# Altium schematic symbol library General.SchLib: 173 symbols (part 3 of 4)
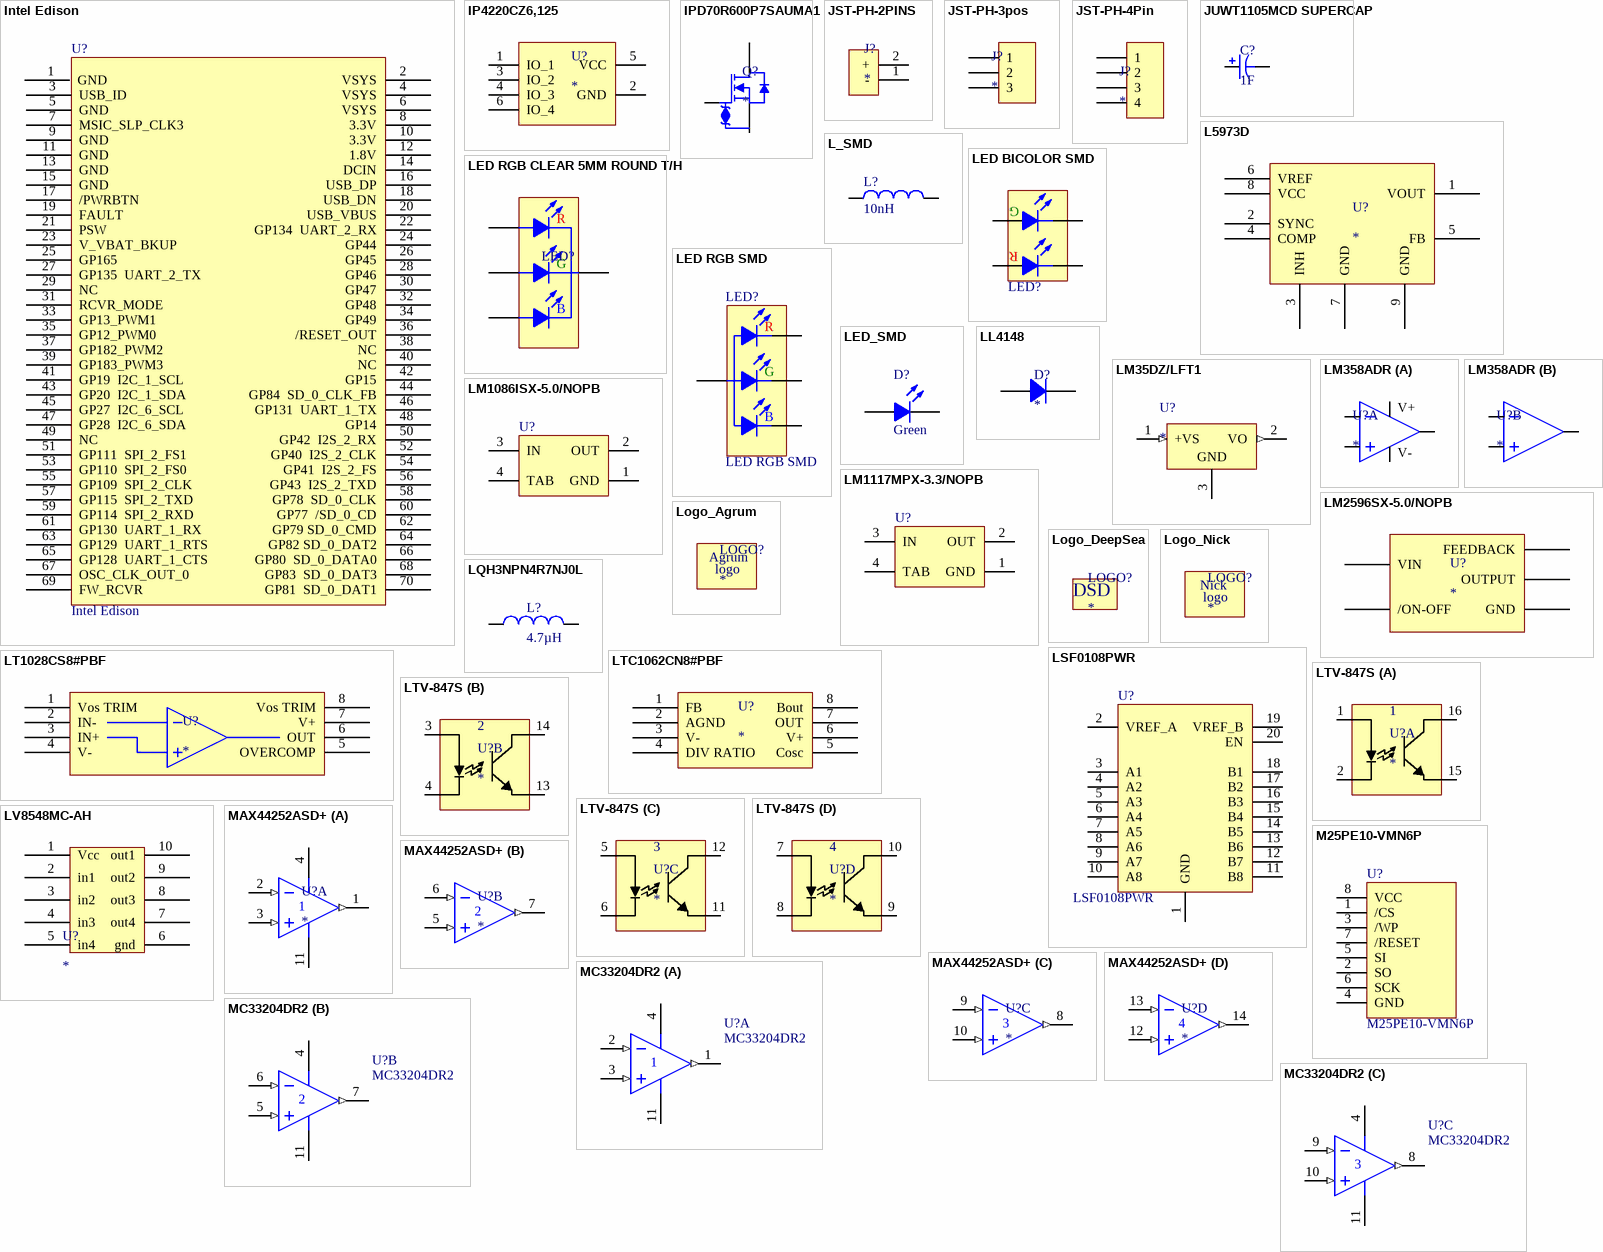
[diagram p6: symbols Intel Edison to MC33204DR2]

## LM1117MPX-3.3/NOPB
designator U?
800mA Low-Dropout Linear Regulator, 4-pin SOT-223, Pb-Free; PartNumber: LM1117MPX-3.3/NOPB; Manufacturer: National Semiconductor; PackageTopMarking: XYTT*N05A; PowerWise: N; CompType: LDO IC; Regulator Topology: Positive Fixed; Voltage - Output: 3.3V; Voltage - Dropout (Typical): 1.2V @ 800mA; Number of Regulators: 1; Voltage - Input: Up to 15V; Published: 1-Mar-2010; DatasheetVersion: Apr-2006; PackageVersion: revB, Apr-2003; PackageReference: MP04A; Publisher: Altium Limited; PackageDescription: Molded SOT-223, 6.50 x 3.56 x 1.6mm Body, 4 Lead, 2.3mm Pitch; Supplier 1: Digi-Key; Supplier Part Number 1: LM1117MPX-3.3TR-ND; Supplier 2: Digi-Key; Supplier Part Number 2: LM1117MPX-3.3CT-ND; Supplier 3: Digi-Key; Supplier Part Number 3: LM1117MPX-3.3DKR-ND; RoHS: Y; PinCount: 4; Code_JEDEC: TO-261-AA; Code_IPC: SOT223-4; ComponentLink1Description: LM1117 Datasheet; ComponentLink1URL: http://www.national.com/ds/LM/LM1117.pdf; ComponentLink2Description: LM1117 Web Page; ComponentLink2URL: http://www.national.com/pf/LM/LM1117.html; ComponentLink3Description: MP04A Package Page; ComponentLink3URL: http://www.national.com/packaging/folders/mp04a.html; Supplier 4: Digi-Key; Manufacturer Part Number: LM1117MPX-3.3/NOPB; Category: Integrated Circuits (ICs); Stock 4: 15124; Pricing 4: 1=1.1, 10=0.973, 25=0.8784, 100=0.7686, 250=0.67404, 500=0.5978, 750=0.52155, 1000=0.47275 (USD); Packaging: Cut Tape (CT); Current - Output: 800mA; Current - Limit (Min): 800mA; Operating Temperature: 0°C ~ 125°C; Mounting Type: Surface Mount; Package / Case: TO-261-4, TO-261AA; Supplier Device Package: SOT-223; ComponentLink4URL: http://www.ti.com/lit/ds/symlink/lm1117-n.pdf; ComponentLink4Description: http://www.ti.com/lit/ds/symlink/lm1117-n.pdf; Supplier Part Number 4: LM1117MPX-3.3/NOPBCT-ND
footprint MP04A_N (SOT223, 4-Leads, Body 6.5x3.5mm, Pitch 2.3mm, Lead Span 7mm, IPC Medium Density)
footprint MP04A_L (SOT223, 4-Leads, Body 6.5x3.5mm, Pitch 2.3mm, Lead Span 7mm, IPC High Density)
footprint MP04A_M (SOT223, 4-Leads, Body 6.5x3.5mm, Pitch 2.3mm, Lead Span 7mm, IPC Low Density)
pins: 1 GND (power), 2 OUT (power), 3 IN (power), 4 TAB (power)

## LM2596SX-5.0/NOPB
designator U?
IC REG BUCK 5V 3A TO263-5; Manufacturer: Texas Instruments; Manufacturer Part Number: LM2596SX-5.0/NOPB; Function: Step-Down; Output Configuration: Positive; Output Type: Fixed; Number of Outputs: 1; Voltage - Input (Min): 4.5V; Voltage - Input (Max): 40V; Frequency - Switching: 150kHz; Synchronous Rectifier: No; Supplier 1: Digi-Key; RoHS: RoHS Compliant; Category: Integrated Circuits (ICs); Stock 1: 6358; Pricing 1: 1=4.91, 10=4.413, 100=3.6153 (USD); Packaging: Cut Tape (CT); Part Status: Active; Topology: Buck; Voltage - Output (Min/Fixed): 5V; Voltage - Output (Max): -; Current - Output: 3A; Operating Temperature: -40°C ~ 125°C (TJ); Mounting Type: Surface Mount; Package / Case: TO-263-6, D²Pak (5 Leads + Tab), TO-263BA; Supplier Device Package: DDPAK/TO-263-5; ComponentLink1URL: http://www.ti.com/lit/ds/symlink/lm2596.pdf; ComponentLink1Description: http://www.ti.com/lit/ds/symlink/lm2596.pdf; Supplier Part Number 1: LM2596SX-5.0/NOPBCT-ND
footprint TO-263_L
footprint TO-263_M (D2-PAK, 6-Pads, Body 7.55x8.56mm (max), IPC Low Density)
footprint TO-263_N
pins: 1 VIN, 2 OUTPUT, 3 GND, 4 FEEDBACK, 5 /ON-OFF

## Logo_Agrum
designator LOGO?
footprint AGRUM_LOGO1
text: Agrum; logo

## Logo_DeepSea
designator LOGO?
footprint DeepSea_logo1
text: DSD

## Logo_Nick
designator LOGO?
footprint logo_nick_400
text: Nick; logo

## LQH3NPN4R7NJ0L
designator L?, comment 4.7µH
FIXED IND 4.7UH 1.12A 130 MOHM; Manufacturer: Murata Electronics North America; Manufacturer Part Number: LQH3NPN4R7NJ0L; Type: Wirewound; Material - Core: Ferrite; Tolerance: ±30%; Current - Saturation: 780mA; Shielding: Shielded; DC Resistance (DCR): 156 mOhm Max; Frequency - Self Resonant: 65MHz; Frequency - Test: 1MHz; Supplier 1: Digi-Key; RoHS: RoHS Compliant; Category: Inductors, Coils, Chokes; Stock 1: 11577; Pricing 1: 1=0.43, 10=0.387, 25=0.3436, 50=0.3006, 100=0.2792, 250=0.25772, 500=0.24482 (USD); Packaging: Cut Tape (CT); Current Rating: 1.12A; Q @ Freq: -; Ratings: -; Operating Temperature: -40°C ~ 85°C; Mounting Type: Surface Mount; Package / Case: 1212 (3030 Metric); Size / Dimension: 0.118" L x 0.118" W (3.00mm x 3.00mm); Height - Seated (Max): 0.039" (1.00mm); ComponentLink1URL: http://search.murata.co.jp/Ceramy/image/img/PDF/ENG/L0075S0103LQH3NP_J0.pdf; ComponentLink1Description: http://search.murata.co.jp/Ceramy/image/img/PDF/ENG/L0075S0103LQH3NP_J0.pdf; Supplier Part Number 1: 490-5346-1-ND; Value: 4.7µH
footprint IND_WIRE_murata_N (Precision Wire Wound Inductor, 2-Leads, Body 3.00x3.00mm, IPC Medium Density)
pins: 1, 2

## LSF0108PWR
designator U?
IC 8CH LEVEL TRANS BIDIR 20TSSOP; Manufacturer: Texas Instruments; Logic Function: Translator, Bidirectional; Number of Bits: 8; Input Type: Voltage; Data Rate: 100MHz; Number of Outputs/Channel: 1; Differential - Input:Output: No/No; Propagation Delay (Max): 0.4ns; Voltage - Supply: 0 V ~ 5 V; Supplier 1: Digi-Key; Manufacturer Part Number: LSF0108PWR; RoHS: RoHS Compliant; Category: Integrated Circuits (ICs); Stock 1: 787; Pricing 1: 1=1.98, 10=1.788, 25=1.602, 100=1.4407, 250=1.27928, 500=1.1178, 750=1.01223, 1000=0.92529 (USD); Packaging: Cut Tape (CT); Output Type: Voltage; Number of Channels: 8; Operating Temperature: -40°C ~ 85°C; Package / Case: 20-TSSOP (0.173", 4.40mm Width); Supplier Device Package: 20-TSSOP; Mounting Type: Surface Mount; ComponentLink1URL: http://www.ti.com/lit/ds/symlink/lsf0108.pdf; ComponentLink1Description: http://www.ti.com/lit/ds/symlink/lsf0108.pdf; Supplier Part Number 1: 296-37828-1-ND
footprint TSSOP-20_N (TSOP, 20-Leads, Body 6,50x4,40mm, Pitch 0,65mm, IPC Medium Density)
footprint TSSOP-20_M (TSOP, 20-Leads, Body 6,50x4,40mm, Pitch 0,65mm, IPC Low Density)
footprint TSSOP-20_L (TSOP, 20-Leads, Body 6,50x4,40mm, Pitch 0,65mm, IPC High Density)
pins: 1 GND, 2 VREF_A, 3 A1, 4 A2, 5 A3, 6 A4, 7 A5, 8 A6, 9 A7, 10 A8, 11 B8, 12 B7, 13 B6, 14 B5, 15 B4, 16 B3, 17 B2, 18 B1, 19 VREF_B, 20 EN

## LT1028CS8#PBF
designator U?
IC OPAMP GP 75MHZ 8SO; Manufacturer: Linear Technology; Manufacturer Part Number: LT1028CS8#PBF; Amplifier Type: General Purpose; Number of Circuits: 1; Slew Rate: 15 V/µs; Current - Supply: 7.6mA; Voltage - Supply, Single/Dual (±): ±4 V ~ 18 V; Supplier 1: Digi-Key; RoHS: RoHS Compliant; Category: Integrated Circuits (ICs); Stock 1: 3083; Pricing 1: 1=9.55, 25=6.3396, 100=4.95 (USD); Packaging: Tube; Part Status: Active; Output Type: -; -3db Bandwidth: -; Current - Output / Channel: -; Operating Temperature: 0°C ~ 70°C; Mounting Type: Surface Mount; Package / Case: 8-SOIC (0.154", 3.90mm Width); Supplier Device Package: 8-SO; ComponentLink1URL: http://www.linear.com/docs/3480; ComponentLink1Description: http://www.linear.com/docs/3480; Supplier Part Number 1: LT1028CS8#PBF-ND
footprint SOIC8_L (SOIC, 8-Leads, Body 4.90x3.90mm, Pitch 1.27mm, IPC High Density)
footprint SOIC8_M (SOIC, 8-Leads, Body 4.90x3.90mm, Pitch 1.27mm, IPC Low Density)
footprint SOIC8_N (SOIC, 8-Leads, Body 4.90x3.90mm, Pitch 1.27mm, IPC Medium Density)
pins: 1 Vos TRIM, 2 IN-, 3 IN+, 4 V-, 5 OVERCOMP, 6 OUT, 7 V+, 8 Vos TRIM

## LTC1062CN8#PBF
designator U?
IC FILTER 5TH ORDER LOWPASS 8DIP; Manufacturer: Linear Technology; Manufacturer Part Number: LTC1062CN8#PBF; Filter Type: Butterworth, Low Pass Switched Capacitor; Frequency - Cutoff or Center: 20kHz; Voltage - Supply: ±8V, 5V; Supplier 1: Digi-Key; RoHS: RoHS Compliant; Category: Integrated Circuits (ICs); Stock 1: 3093; Pricing 1: 1=6.16, 25=4.1, 100=3.3 (USD); Packaging: Tube; Part Status: Active; Filter Order: 5th; Mounting Type: Through Hole; Package / Case: 8-DIP (0.300", 7.62mm); Supplier Device Package: 8-PDIP; ComponentLink1URL: http://www.linear.com/docs/4050; ComponentLink1Description: http://www.linear.com/docs/4050; Supplier Part Number 1: LTC1062CN8#PBF-ND
footprint DIP8
pins: 1 FB, 2 AGND, 3 V-, 4 DIV RATIO, 5 Cosc, 6 V+, 7 OUT, 8 Bout

## LTV-847S
designator U?
OPTOISOLTR 5KV 4CH TRANS 16-SMD; Manufacturer: Lite-On Inc.; Manufacturer Part Number: LTV-847S; Number of Channels: 4; Voltage - Isolation: 5000Vrms; Current Transfer Ratio (Min): 50% @ 5mA; Current Transfer Ratio (Max): 600% @ 5mA; Rise / Fall Time (Typ): 4µs, 3µs; Input Type: DC; Output Type: Transistor; Voltage - Output (Max): 35V; Current - Output / Channel: 50mA; Voltage - Forward (Vf) (Typ): 1.2V; Vce Saturation (Max): 200mV; Supplier 1: Digi-Key; RoHS: RoHS Compliant; Category: Isolators; Stock 1: 11220; Pricing 1: 1=1.02, 10=0.825, 25=0.6344, 100=0.5711, 250=0.5076, 500=0.43146, 1000=0.35532, 2500=0.33756, 5000=0.32994 (USD); Packaging: Tube; Part Status: Active; Turn On / Turn Off Time (Typ): -; Current - DC Forward (If) (Max): 50mA; Operating Temperature: -30°C ~ 110°C; Mounting Type: Surface Mount; Package / Case: 16-SMD, Gull Wing; Supplier Device Package: 16-SMD; ComponentLink1URL: http://optoelectronics.liteon.com/upload/download/DS-70-96-0016/S_110_LTV-817%20%20827%20%20847%20(%20M,%20S,%20S-TA,%20S-TA1,%20S-TP%20)%20Series.pdf; ComponentLink1Description: http://optoelectronics.liteon.com/upload/download/DS-70-96-0016/S_110_LTV-817%20%20827%20%20847%20(%20M,%20S,%20S-TA,%20S-TA1,%20S-TP%20)%20Series.pdf; Supplier Part Number 1: 160-1371-5-ND
footprint SOP16_LTVS874_L (SOP, 16-Leads, Body 19.79x6.50mm, Pitch 2.54mm, IPC High Density)
footprint SOP16_LTVS874_M (SOP, 16-Leads, Body 19.79x6.50mm, Pitch 2.54mm, IPC Low Density)
footprint SOP16_LTVS874_N (SOP, 16-Leads, Body 19.79x6.50mm, Pitch 2.54mm, IPC Medium Density)
part A pins: 1 control+, 2 control-, 15 DC-, 16 DC+
part B pins: 3 control+, 4 control-, 13 DC-, 14 DC+
part C pins: 5 control+, 6 control-, 11 DC-, 12 DC+
part D pins: 7 control+, 8 control-, 9 DC-, 10 DC+

## LV8548MC-AH
designator U?
IC MOTOR DRIVER PAR MFP10S; Manufacturer: ON Semiconductor; Manufacturer Part Number: LV8548MC-AH; Motor Type - Stepper: Bipolar; Motor Type - AC, DC: Brushed DC; Function: Power Bridge - Logic Driven Power Stage; Output Configuration: Full H-Bridge, (2) Dual; Interface: Parallel; Current - Output: 1A; Voltage - Supply: 4 V ~ 16 V; Supplier 1: Digi-Key; Supplier Part Number 1: 869-1287-6-ND; Supplier 2: Digi-Key; RoHS: RoHS Compliant; Category: Integrated Circuits (ICs); Stock 2: 2255; Pricing 2: 1=1.41, 10=1.244, 25=1.1232, 100=0.9828, 250=0.86192, 500=0.7644, 1000=0.6045 (USD); Packaging: Cut Tape (CT); Applications: General Purpose; Voltage - Load: 4 V ~ 16 V; Operating Temperature: -30°C ~ 85°C; Mounting Type: Surface Mount; Package / Case: 10-LSOP (0.173", 4.40mm Width); Supplier Device Package: MFP10S; ComponentLink1URL: http://www.onsemi.com/pub_link/Collateral/ENA2038-D.PDF; ComponentLink1Description: http://www.onsemi.com/pub_link/Collateral/ENA2038-D.PDF; Supplier Part Number 2: 869-1287-1-ND
footprint SOIC10
pins: 1 Vcc, 2 in1, 3 in2, 4 in3, 5 in4, 6 gnd, 7 out4, 8 out3, 9 out2, 10 out1

## M25PE10-VMN6P
designator U?
IC FLASH 1MBIT 75MHZ 8SO; Manufacturer: Micron Technology Inc; Memory Type: FLASH - NOR; Memory Size: 1M (128K x 8); Interface: SPI Serial; Voltage - Supply: 2.7 V ~ 3.6 V; Supplier 1: Digi-Key; Manufacturer Part Number: M25PE10-VMN6P; RoHS: RoHS Compliant; Category: Integrated Circuits (ICs); Stock 1: 1134; Pricing 1: 1=0.53, 10=0.516, 25=0.4796, 50=0.4768, 100=0.4236, 250=0.41808, 500=0.41184, 1000=0.4008, 2500=0.39216 (USD); Packaging: Tube; Format - Memory: FLASH; Speed: 75MHz; Operating Temperature: -40°C ~ 85°C; Package / Case: 8-SOIC (0.154", 3.90mm Width); Supplier Device Package: 8-SO; ComponentLink1URL: http://www.micron.com/~/media/Documents/Products/Data%20Sheet/NOR%20Flash/Serial%20NOR/M25PE_M45PE/M25PE20_10.pdf; ComponentLink1Description: http://www.micron.com/~/media/Documents/Products/Data%20Sheet/NOR%20Flash/Serial%20NOR/M25PE_M45PE/M25PE20_10.pdf; Supplier Part Number 1: M25PE10-VMN6P-ND
footprint SO8N_N (SOIC, 8-Leads, Body 4,90x3,90mm, Pitch 1,27mm, IPC Medium Density)
footprint SO8N_M (SOIC, 8-Leads, Body 4,90x3,90mm, Pitch 1,27mm, IPC Low Density)
footprint SO8N_L (SOIC, 8-Leads, Body 4,90x3,90mm, Pitch 1,27mm, IPC High Density)
pins: 1 /CS, 2 SO, 3 /WP, 4 GND, 5 SI, 6 SCK, 7 /RESET, 8 VCC

## MAX44252ASD+
designator U?
IC OPAMP AUTO-ZERO 10MHZ 14SOIC; Manufacturer: Maxim Integrated; Manufacturer Part Number: MAX44252ASD+; Amplifier Type: Zero-Drift; Number of Circuits: 4; Output Type: Rail-to-Rail; Slew Rate: 8 V/µs; Current - Supply: 1.15mA; Current - Output / Channel: 96mA; Voltage - Supply, Single/Dual (±): 2.7 V ~ 20 V, ±1.35 V ~ 10 V; Supplier 1: Digi-Key; RoHS: RoHS Compliant; Category: Integrated Circuits (ICs); Stock 1: 2169; Pricing 1: 1=2.64, 10=2.51, 50=2.49 (USD); Packaging: Tube; Part Status: Active; -3db Bandwidth: -; Operating Temperature: -40°C ~ 125°C; Mounting Type: Surface Mount; Package / Case: 14-SOIC (0.154", 3.90mm Width); Supplier Device Package: 14-SOIC; ComponentLink1URL: https://datasheets.maximintegrated.com/en/ds/MAX44250-MAX44252.pdf; ComponentLink1Description: https://datasheets.maximintegrated.com/en/ds/MAX44250-MAX44252.pdf; Supplier Part Number 1: MAX44252ASD+-ND
footprint SOIC14_L (SOIC, 14-Leads, Body 8.63x3.90mm, Pitch 1.27mm, IPC High Density)
footprint SOIC14_M (SOIC, 14-Leads, Body 8.63x3.90mm, Pitch 1.27mm, IPC Low Density)
footprint SOIC14_N (SOIC, 14-Leads, Body 8.63x3.90mm, Pitch 1.27mm, IPC Medium Density)
part A pins: 1 OUT (out), 2 IN- (in), 3 IN+ (in), 4 V+ (power), 11 V- (power)
part B pins: 5 IN+ (in), 6 IN- (in), 7 OUT (out)
part C pins: 8 OUT (out), 9 IN- (in), 10 IN+ (in)
part D pins: 12 IN+ (in), 13 IN- (in), 14 OUT (out)

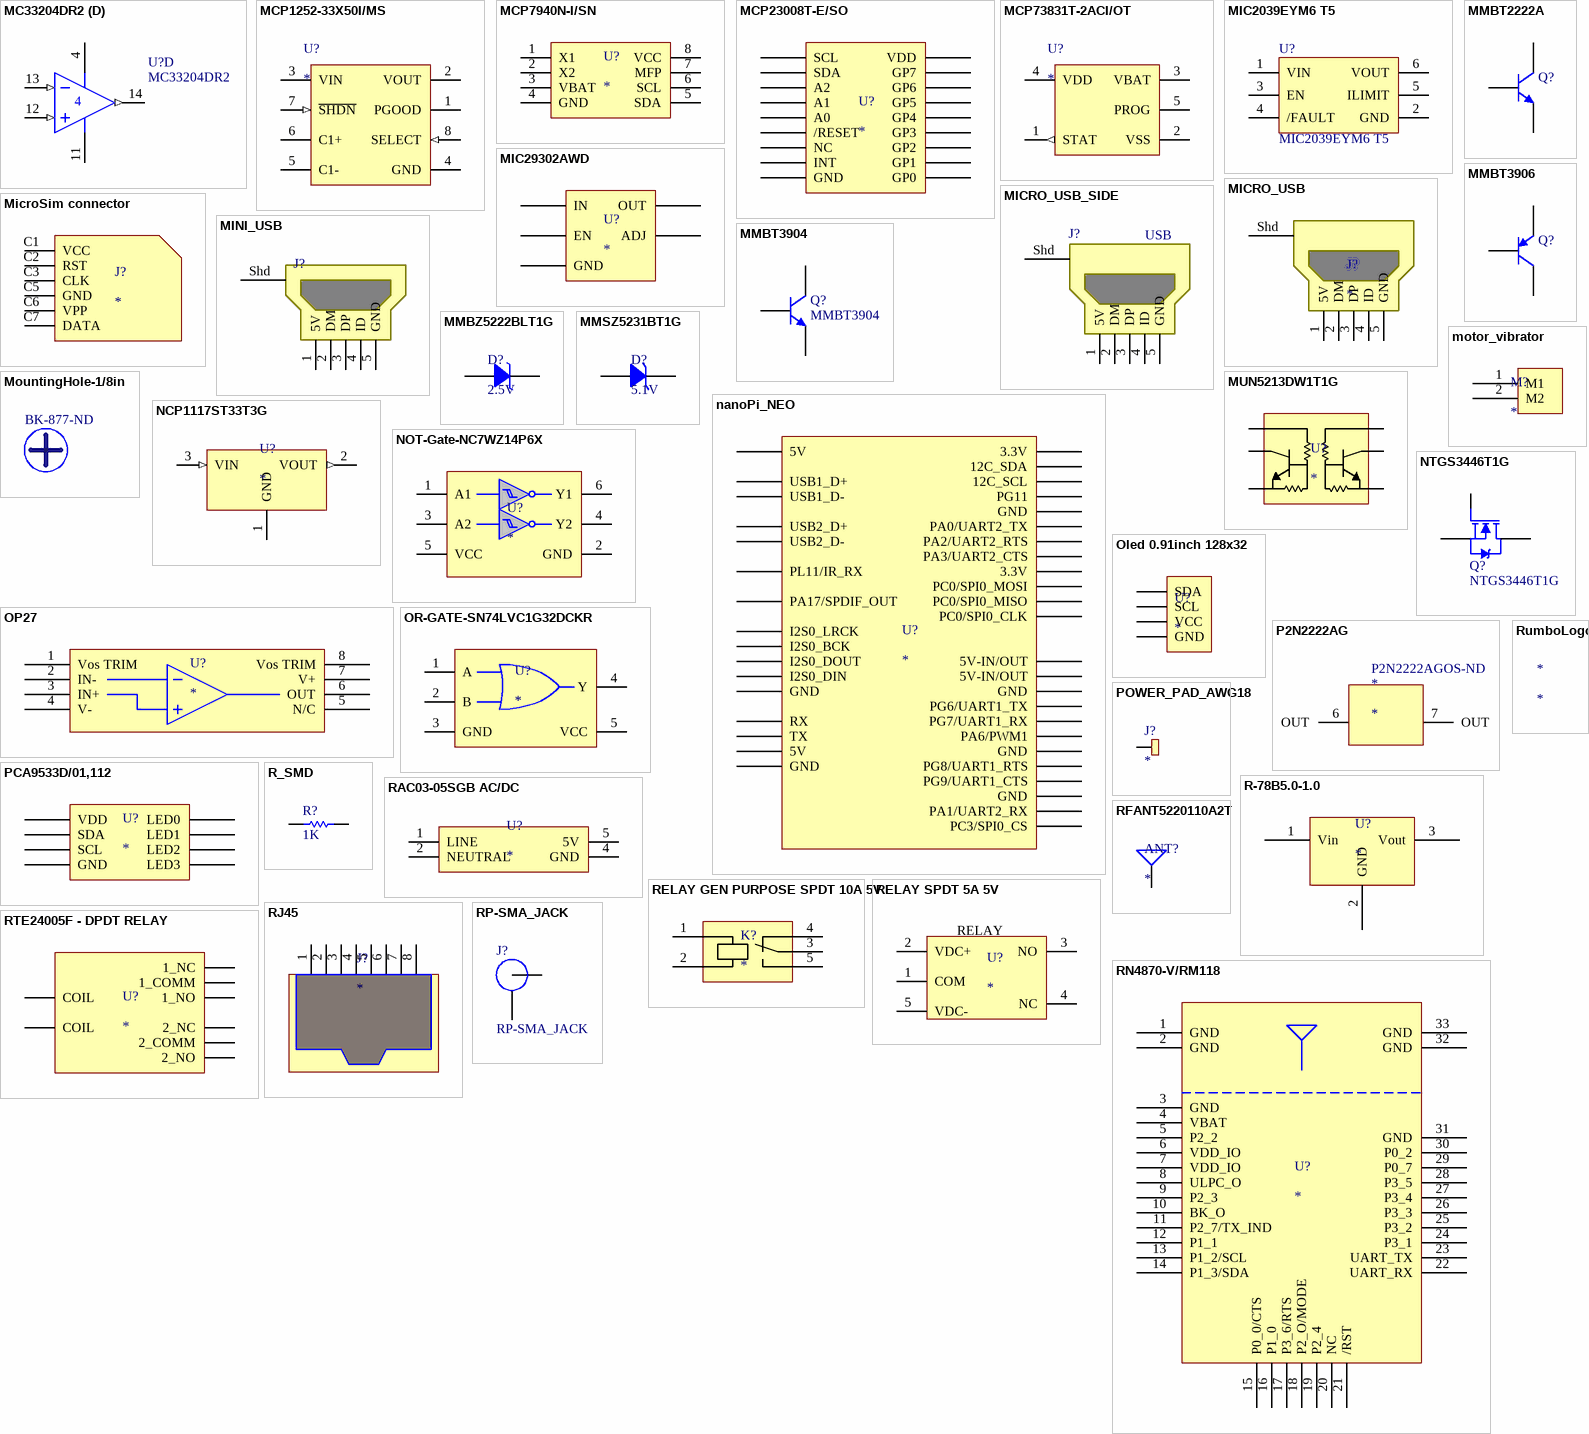
[diagram p3: symbols MC33204DR2 to RumboLogo]

## MC33204DR2
designator U?
Rail-to-Rail Quad Operational Amplifier; Manufacturer: ON Semiconductor; Manufacturer Part Number: MC33204DR2G; Amplifier Type: General Purpose; Number of Circuits: 4; Slew Rate: 1 V/µs; Gain Bandwidth Product: 2.2MHz; Current - Input Bias: 80nA; Voltage - Input Offset: 10mV; Current - Supply: 900µA; Current - Output / Channel: 80mA; Voltage - Supply, Single/Dual (±): 1.8 V ~ 12 V, ±0.9 V ~ 6 V; Published: 17-Jul-2002; LatestRevisionDate: 13-Apr-2006; LatestRevisionNote: IPC-7351 Footprint Added.; DatasheetVersion: Nov-1999; PackageVersion: May-1997; PackageReference: 751A-03; Publisher: Altium Limited; PackageDescription: 14-Pin Small Outline Integrated Circuit 1.27 mm Pitch; Code_JEDEC: MS-012-AB; Code_IPC: SOIC127P600-14; ComponentLink1Description: Manufacturer Link; ComponentLink1URL: http://www.onsemi.com/site/products/parametrics/0,4446,251,00.html; ComponentLink2Description: Datasheet; ComponentLink2URL: http://www.onsemi.com/pub/Collateral/MC33201-D.PDF; Supplier 1: Digi-Key; RoHS: RoHS Compliant; Category: Integrated Circuits (ICs); Stock 1: 2905; Pricing 1: 1=1.66, 10=1.467, 25=1.3248, 100=1.1592, 250=1.0166, 500=0.9016, 1000=0.713 (USD); Packaging: Cut Tape (CT); Output Type: Rail-to-Rail; -3db Bandwidth: -; Operating Temperature: -40°C ~ 105°C; Mounting Type: Surface Mount; Package / Case: 14-SOIC (0.154", 3.90mm Width); Supplier Device Package: 14-SOICN; ComponentLink3URL: http://www.onsemi.com/pub_link/Collateral/MC33201-D.PDF; ComponentLink3Description: http://www.onsemi.com/pub_link/Collateral/MC33201-D.PDF; Supplier Part Number 1: MC33204DR2GOSCT-ND
footprint 751A-03_N (SOIC, 14-Leads, Body 8.7x3.9mm, Pitch 1.27mm, IPC Medium Density)
footprint 751A-03_L (SOIC, 14-Leads, Body 8.7x3.9mm, Pitch 1.27mm, IPC High Density)
footprint 751A-03_M (SOIC, 14-Leads, Body 8.7x3.9mm, Pitch 1.27mm, IPC Low Density)
3D model 751A-03 (PCB3D Model)
simulation model MC33204 (SUBCKT)
pins on every part: 4 V+ (power), 11 V- (power)
part A pins: 1 OUT (out), 2 IN- (in), 3 IN+ (in)
part B pins: 5 IN+ (in), 6 IN- (in), 7 OUT (out)
part C pins: 8 OUT (out), 9 IN- (in), 10 IN+ (in)
part D pins: 12 IN+ (in), 13 IN- (in), 14 OUT (out)

## MCP1252-33X50I/MS
designator U?
IC REG MULTI CONFIG 0.12A 8MSOP; Manufacturer: Microchip Technology; Manufacturer Part Number: MCP1252-33X50I/MS; Output Type: Fixed; Number of Outputs: 1; Voltage - Output: 3.3V, 5V; Voltage - Input: 2 V ~ 5.5 V; Frequency - Switching: 650kHz; Current - Output: 120mA; Synchronous Rectifier: No; Supplier 1: Digi-Key; RoHS: RoHS Compliant; Category: Integrated Circuits (ICs); Stock 1: 1865; Pricing 1: 1=1.64, 10=1.37, 25=1.14, 100=1.04 (USD); Packaging: Tube; Type: Step-Down (Buck), Step-Up (Boost), Switched Capacitor (Charge Pump); PWM Type: -; Operating Temperature: -40°C ~ 85°C; Mounting Type: Surface Mount; Package / Case: 8-TSSOP, 8-MSOP (0.118", 3.00mm Width); Supplier Device Package: 8-MSOP; ComponentLink1URL: http://www.microchip.com/mymicrochip/filehandler.aspx?ddocname=en011637; ComponentLink1Description: http://www.microchip.com/mymicrochip/filehandler.aspx?ddocname=en011637; Supplier Part Number 1: MCP1252-33X50I/MS-ND
footprint MSOP-MS8_L (TSOP, 8-Leads, Body 3x3mm, Pitch 0.65mm, IPC High Density)
footprint MSOP-MS8_M (TSOP, 8-Leads, Body 3x3mm, Pitch 0.65mm, IPC Low Density)
footprint MSOP-MS8_N (TSOP, 8-Leads, Body 3x3mm, Pitch 0.65mm, IPC Medium Density)
pins: 1 PGOOD (oc), 2 VOUT (power), 3 VIN (power), 4 GND (power), 5 C1-, 6 C1+, 7 ~{SHDN} (in), 8 SELECT (in)

## MCP7940N-I/SN
designator U?
IC RTC CLK/CALENDAR I2C 8-SOIC; Manufacturer: Microchip Technology; Manufacturer Part Number: MCP7940N-I/SN; Memory Size: 64B; Time Format: HH:MM:SS (12/24 hr); Date Format: YY-MM-DD-dd; Interface: I²C, 2-Wire Serial; Voltage - Supply: 1.8 V ~ 5.5 V; Voltage - Supply, Battery: 1.3 V ~ 5.5 V; Current - Timekeeping (Max): 1.2µA @ 3.3V; Supplier 1: Digi-Key; RoHS: RoHS Compliant; Category: Integrated Circuits (ICs); Stock 1: 6918; Pricing 1: 1=0.76, 25=0.7004, 100=0.6695 (USD); Packaging: Tube; Part Status: Active; Type: Clock/Calendar; Features: Alarm, Leap Year, Square Wave Output, SRAM; Operating Temperature: -40°C ~ 85°C; Mounting Type: Surface Mount; Package / Case: 8-SOIC (0.154", 3.90mm Width); Supplier Device Package: 8-SOIC; Base Part Number: MCP7940N; ComponentLink1URL: http://www.microchip.com/mymicrochip/filehandler.aspx?ddocname=en553487; ComponentLink1Description: http://www.microchip.com/mymicrochip/filehandler.aspx?ddocname=en553487; Supplier Part Number 1: MCP7940N-I/SN-ND
footprint SOIC8_L (SOIC, 8-Leads, Body 4.90x3.90mm, Pitch 1.27mm, IPC High Density)
footprint SOIC8_M (SOIC, 8-Leads, Body 4.90x3.90mm, Pitch 1.27mm, IPC Low Density)
footprint SOIC8_N (SOIC, 8-Leads, Body 4.90x3.90mm, Pitch 1.27mm, IPC Medium Density)
pins: 1 X1, 2 X2, 3 VBAT, 4 GND, 5 SDA, 6 SCL, 7 MFP, 8 VCC

## MCP23008T-E/SO
designator U?
IC I/O EXPANDER I2C 8B 18SOIC; Manufacturer: Microchip Technology; Manufacturer Part Number: MCP23008T-E/SO; Number of I/O: 8; Interface: I²C; Interrupt Output: Yes; Output Type: Push-Pull; Current - Output Source/Sink: 25mA; Voltage - Supply: 1.8 V ~ 5.5 V; Supplier 1: Digi-Key; RoHS: RoHS Compliant; Category: Integrated Circuits (ICs); Stock 1: 3157; Pricing 1: 1=1.05, 25=0.8756, 100=0.8034 (USD); Packaging: Cut Tape (CT); Part Status: Active; Features: POR; Operating Temperature: -40°C ~ 125°C; Mounting Type: Surface Mount; Package / Case: 18-SOIC (0.295", 7.50mm Width); Supplier Device Package: 18-SOIC; ComponentLink1URL: http://www.microchip.com/mymicrochip/filehandler.aspx?ddocname=en021920; ComponentLink1Description: http://www.microchip.com/mymicrochip/filehandler.aspx?ddocname=en021920; Supplier Part Number 1: MCP23008T-E/SOCT-ND
footprint SOIC_18L (SOIC, 18-Leads, Body 11.50x7.50mm, Pitch 1.27mm, IPC High Density)
footprint SOIC_18M (SOIC, 18-Leads, Body 11.50x7.50mm, Pitch 1.27mm, IPC Low Density)
footprint SOIC_18N (SOIC, 18-Leads, Body 11.50x7.50mm, Pitch 1.27mm, IPC Medium Density)
pins: 1 SCL, 2 SDA, 3 A2, 4 A1, 5 A0, 6 /RESET, 7 NC, 8 INT, 9 GND, 10 GP0, 11 GP1, 12 GP2, 13 GP3, 14 GP4, 15 GP5, 16 GP6, 17 GP7, 18 VDD

## MCP73831T-2ACI/OT
designator U?
IC CONTROLLR LI-ION 4.2V SOT23-5; Manufacturer: Microchip Technology; Manufacturer Part Number: MCP73831T-2ACI/OT; Function: Charge Management; Battery Chemistry: Li-Ion, Li-Pol; Voltage - Supply: 3.75 V ~ 6 V; Supplier 1: Digi-Key; RoHS: RoHS Compliant; Category: Integrated Circuits (ICs); Stock 1: 15473; Pricing 1: 1=0.67, 10=0.56, 25=0.47, 100=0.42 (USD); Packaging: Cut Tape (CT); Operating Temperature: -40°C ~ 85°C; Mounting Type: Surface Mount; Package / Case: SC-74A, SOT-753; Supplier Device Package: SOT-23-5; ComponentLink1URL: http://www.microchip.com/mymicrochip/filehandler.aspx?ddocname=en025112; ComponentLink1Description: http://www.microchip.com/mymicrochip/filehandler.aspx?ddocname=en025112; Supplier Part Number 1: MCP73831T-2ACI/OTCT-ND
footprint SOT-23-OT5_M (SOT23, 5-Leads, Body 2.9x1.6mm, Pitch 0.95mm, Lead Span 2.7mm, IPC Low Density)
footprint SOT-23-OT5_L (SOT23, 5-Leads, Body 2.9x1.6mm, Pitch 0.95mm, Lead Span 2.7mm, IPC High Density)
footprint SOT-23-OT5_N (SOT23, 5-Leads, Body 2.9x1.6mm, Pitch 0.95mm, Lead Span 2.7mm, IPC Medium Density)
pins: 1 STAT (out), 2 VSS (power), 3 VBAT (power), 4 VDD (power), 5 PROG

## MIC2039EYM6 T5
designator U?
IC SW DISTRIBUTION SOT23-6L; Manufacturer: Micrel Inc; Switch Type: General Purpose; Number of Outputs: 1; Ratio - Input:Output: 1:1; Output Configuration: High Side; Output Type: P-Channel; Interface: On/Off; Voltage - Load: 2.5 V ~ 5.5 V; Voltage - Supply (Vcc/Vdd): Not Required; Current - Output (Max): Adjustable; Rds (On): 75 mOhm; Input Type: Non-Inverting; Fault Protection: Current Limiting (Adjustable), Over Temperature, UVLO; Supplier 1: Digi-Key; Manufacturer Part Number: MIC2039EYM6 T5; RoHS: RoHS Compliant; Category: Integrated Circuits (ICs); Stock 1: 0; Pricing 1: 1=1.77, 10=1.58, 25=1.394, 100=1.2544, 250=1.0918 (USD); Packaging: Cut Tape (CT); Features: Slew Rate Controlled, Status Flag; Operating Temperature: -40°C ~ 125°C (TJ); Package / Case: SOT-23-6; ComponentLink1URL: http://www.micrel.com/_PDF/MIC2039.pdf; ComponentLink1Description: http://www.micrel.com/_PDF/MIC2039.pdf; Supplier Part Number 1: 576-4192-1-ND
footprint SOT23-6L(M6)_N (SOT23, 6-Leads, Body 2,90x2,80mm, Pitch 0,95mm, IPC Medium Density)
footprint SOT23-6L(M6)_M (SOT23, 6-Leads, Body 2,90x2,80mm, Pitch 0,95mm, IPC Low Density)
footprint SOT23-6L(M6)_L (SOT23, 6-Leads, Body 2,90x2,80mm, Pitch 0,95mm, IPC High Density)
pins: 1 VIN, 2 GND, 3 EN, 4 /FAULT, 5 ILIMIT, 6 VOUT

## MIC29302AWD
designator U?
IC REG LDO ADJ 3A TO252-5; Manufacturer: Microchip Technology; Manufacturer Part Number: MIC29302AWD; Regulator Topology: Positive Adjustable; Voltage - Output: 1.24 V ~ 15 V; Voltage - Dropout (Typical): 0.45V @ 3A; Voltage - Input: 3 V ~ 16 V; Supplier 1: Digi-Key; RoHS: RoHS Compliant; Category: Integrated Circuits (ICs); Stock 1: 444; Pricing 1: 1=1.93, 25=1.6068, 100=1.4626 (USD); Packaging: Tube; Part Status: Active; Current - Output: 3A; Current - Limit (Min): 3A; Operating Temperature: -40°C ~ 125°C; Mounting Type: Surface Mount; Package / Case: TO-263-6, D²Pak (5 Leads + Tab), TO-263BA; Supplier Device Package: TO-252-5; ComponentLink1URL: http://www.microchip.com/mymicrochip/filehandler.aspx?ddocname=en580808; ComponentLink1Description: http://www.microchip.com/mymicrochip/filehandler.aspx?ddocname=en580808; Supplier Part Number 1: 576-4058-5-ND
footprint TO-252_dpak_M
footprint TO-252_dpak_N
pins: 1 EN, 2 IN, 3 GND, 4 OUT, 5 ADJ

## MICRO_USB
designator J?
CONN USB MICRO B RECPT SMT R/A; Manufacturer: FCI; Manufacturer Part Number: 10118194-0001LF; Connector Type: USB - micro B; Number of Contacts: 5; Gender: Receptacle; Specifications: USB 2.0; Supplier 1: Digi-Key; RoHS: RoHS Compliant; Category: Connectors, Interconnects; Stock 1: 9139; Pricing 1: 1=0.46, 10=0.433, 25=0.3712, 50=0.3156, 100=0.3032, 250=0.27224, 500=0.25988 (USD); Packaging: Cut Tape (CT); Mounting Type: Surface Mount, Right Angle, Horizontal; Features: Shielded, Solder Retention; Ingress Protection: -; ComponentLink1URL: http://portal.fciconnect.com/Comergent//fci/drawing/10118194.pdf; ComponentLink1Description: http://portal.fciconnect.com/Comergent//fci/drawing/10118194.pdf; Supplier Part Number 1: 609-4618-1-ND
footprint USB MICRO
footprint USB_MICRO_SMD
pins: 1 5V (power), 2 DM, 3 DP, 4 ID, 5 GND (power), Shd 6

## MICRO_USB_SIDE
designator J?, comment USB
CONN RCPT MICRO USB B SPLASH PRF; Manufacturer: Hirose Electric Co Ltd; Manufacturer Part Number: ZX62WRD-B-5PC; Connector Type: USB - micro B; Number of Contacts: 5; Gender: Receptacle; Specifications: USB 2.0; Ingress Protection: IPX-2 - Water Resistant; Supplier 1: Digi-Key; RoHS: RoHS Compliant; Category: Connectors, Interconnects; Stock 1: 165; Pricing 1: 1=1.37, 10=1.206, 25=1.1352, 50=1.088, 100=1.0406, 250=0.946, 500=0.8514, 1000=0.7568 (USD); Packaging: Cut Tape (CT); Mounting Type: Surface Mount, Right Angle, Horizontal; Features: Board Guide; ComponentLink1URL: http://media.digikey.com/PDF/Data%20Sheets/Hirose%20PDFs/ZX62WRD-B-5PC_Specs.pdf; ComponentLink1Description: http://media.digikey.com/PDF/Data%20Sheets/Hirose%20PDFs/ZX62WRD-B-5PC_Specs.pdf; Supplier Part Number 1: H12192CT-ND
footprint USB_MICRO_ENCLOSURE
pins: 1 5V (power), 2 DM, 3 DP, 4 ID, 5 GND (power), Shd 6

## MicroSim connector
designator J?
CONN MICRO SIM CARD PUSH-PULL; Manufacturer: Molex, LLC; Manufacturer Part Number: 0786463001; Number of Positions: 6; Connector Type: Connector; Insertion, Removal Method: Push In, Pull Out; Supplier 1: Digi-Key; RoHS: RoHS Compliant; Category: Connectors, Interconnects; Stock 1: 3906; Pricing 1: 1=1.08, 10=0.953, 25=0.8964, 50=0.8592, 100=0.8218, 250=0.74712, 500=0.6724 (USD); Packaging: Cut Tape (CT); Card Type: Micro SIM; Ejector Side: -; Mounting Type: Surface Mount, Right Angle; Features: -; Height Above Board: 0.057" (1.45mm); Mounting Feature: Normal, Standard - Top; Contact Finish: Gold; Contact Finish Thickness: 15µin (0.38µm); ComponentLink1URL: http://www.molex.com/pdm_docs/sd/786463001_sd.pdf; ComponentLink1Description: http://www.molex.com/pdm_docs/sd/786463001_sd.pdf; Supplier Part Number 1: WM9364CT-ND
footprint MicroSim-MOLEX
pins: C1 VCC, C2 RST, C3 CLK, C5 GND, C6 VPP, C7 DATA

## MINI_USB
designator J?
CONN RCPT USB MINI B R/A SMD; Manufacturer: Hirose Electric Co Ltd; Manufacturer Part Number: UX60SC-MB-5ST(80); Number of Contacts: 5; Gender: Receptacle; Specifications: USB 2.0; Connector Type: USB - mini B; Supplier 1: Digi-Key; RoHS: RoHS Compliant; Category: Connectors, Interconnects; Stock 1: 43682; Pricing 1: 1=1.05, 10=0.813, 25=0.7576, 50=0.6876, 100=0.62, 250=0.52252, 500=0.495 (USD); Packaging: Cut Tape (CT); Mounting Type: Surface Mount, Right Angle, Horizontal; Features: Solder Retention; Ingress Protection: -; ComponentLink1URL: http://www.hirose.co.jp/cataloge_hp/e24000153.pdf; ComponentLink1Description: http://www.hirose.co.jp/cataloge_hp/e24000153.pdf; Supplier Part Number 1: H11671CT-ND
footprint USB MINI
pins: 1 5V (power), 2 DM, 3 DP, 4 ID, 5 GND (power), Shd 6

## MMBT2222A
designator Q?
NPN Switching Transistor; Published: 17-Sep-2003; LatestRevisionDate: 12-Dec-2006; LatestRevisionNote: IPC-7351 Footprint Added.; DatasheetVersion: 11-Apr-2000; PackageVersion: May-1999; PackageReference: SOT23; Publisher: Altium Limited; PackageDescription: 3-Pin SOT-23 Package 0.95 mm Pitch, 2.3 mm Lead Span; ComponentLink1Description: Manufacturer Link; ComponentLink1URL: http://www.semiconductors.philips.com/; ComponentLink2Description: Datasheet; ComponentLink2URL: http://www.semiconductors.philips.com/acrobat/datasheets/MMBT2222A_2.pdf
footprint SOT23_N (SOT23, 3-Leads, Body 2.9x1.3mm, Pitch 0.95mm, Lead Span 2.3mm, IPC Medium Density)
footprint SOT23_L (SOT23, 3-Leads, Body 2.9x1.3mm, Pitch 0.95mm, Lead Span 2.3mm, IPC High Density)
footprint SOT23_M (SOT23, 3-Leads, Body 2.9x1.3mm, Pitch 0.95mm, Lead Span 2.3mm, IPC Low Density)
simulation model QMMBT2222A (NPN)
signal-integrity model MMBT2222A
pins: 1 B, 2 E, 3 C

## MMBT3904
designator Q?
NPN Switching Transistor; Manufacturer: Micro Commercial Co; Manufacturer Part Number: MMBT3904-TP; Current - Collector (Ic) (Max): 200mA; Voltage - Collector Emitter Breakdown (Max): 40V; Vce Saturation (Max) @ Ib, Ic: 300mV @ 5mA, 50mA; DC Current Gain (hFE) (Min) @ Ic, Vce: 100 @ 10mA, 1V; Power - Max: 350mW; Frequency - Transition: 300MHz; Published: 17-Sep-2003; LatestRevisionDate: 12-Dec-2006; LatestRevisionNote: IPC-7351 Footprint Added.; DatasheetVersion: 13-May-2002; PackageVersion: May-1999; PackageReference: SOT23; Publisher: Altium Limited; PackageDescription: 3-Pin SOT-23 Package 0.95 mm Pitch, 2.3 mm Lead Span; ComponentLink1Description: Manufacturer Link; ComponentLink1URL: http://www.semiconductors.philips.com/; ComponentLink2Description: Datasheet; ComponentLink2URL: http://www.semiconductors.philips.com/acrobat/datasheets/MMBT3904_4.pdf; Supplier 1: Digi-Key; RoHS: RoHS Compliant; Category: Discrete Semiconductor Products; Stock 1: 101484; Pricing 1: 1=0.14, 10=0.127, 25=0.116, 100=0.0834, 250=0.04916, 500=0.04078, 1000=0.02781 (USD); Packaging: Cut Tape (CT); Transistor Type: NPN; Current - Collector Cutoff (Max): -; Mounting Type: Surface Mount; Package / Case: TO-236-3, SC-59, SOT-23-3; Supplier Device Package: SOT-23; ComponentLink3URL: http://www.mccsemi.com/up_pdf/MMBT3904(SOT-23).pdf; ComponentLink3Description: http://www.mccsemi.com/up_pdf/MMBT3904(SOT-23).pdf; Supplier Part Number 1: MMBT3904TPMSCT-ND
footprint SOT23_N (SOT23, 3-Leads, Body 2.9x1.3mm, Pitch 0.95mm, Lead Span 2.3mm, IPC Medium Density)
footprint SOT23_L (SOT23, 3-Leads, Body 2.9x1.3mm, Pitch 0.95mm, Lead Span 2.3mm, IPC High Density)
footprint SOT23_M (SOT23, 3-Leads, Body 2.9x1.3mm, Pitch 0.95mm, Lead Span 2.3mm, IPC Low Density)
simulation model QMMBT3904 (NPN)
signal-integrity model MMBT3904
pins: 1 B, 2 E, 3 C

## MMBT3906
designator Q?
PNP Switching Transistor; Published: 17-Sep-2003; LatestRevisionDate: 12-Dec-2006; LatestRevisionNote: IPC-7351 Footprint Added.; DatasheetVersion: 11-Apr-2000; PackageVersion: May-1999; PackageReference: SOT23; Publisher: Altium Limited; PackageDescription: 3-Pin SOT-23 Package 0.95 mm Pitch, 2.3 mm Lead Span; ComponentLink1Description: Manufacturer Link; ComponentLink1URL: http://www.semiconductors.philips.com/; ComponentLink2Description: Datasheet; ComponentLink2URL: http://www.semiconductors.philips.com/acrobat/datasheets/MMBT3906_2.pdf
footprint SOT23_N (SOT23, 3-Leads, Body 2.9x1.3mm, Pitch 0.95mm, Lead Span 2.3mm, IPC Medium Density)
footprint SOT23_L (SOT23, 3-Leads, Body 2.9x1.3mm, Pitch 0.95mm, Lead Span 2.3mm, IPC High Density)
footprint SOT23_M (SOT23, 3-Leads, Body 2.9x1.3mm, Pitch 0.95mm, Lead Span 2.3mm, IPC Low Density)
simulation model QMMBT3906 (PNP)
signal-integrity model MMBT3906
pins: 1 B, 2 E, 3 C

## MMBZ5222BLT1G
designator D?, comment 2.5V
DIODE ZENER 2.5V 225MW SOT23-3; Manufacturer: ON Semiconductor; Manufacturer Part Number: MMBZ5222BLT1G; Tolerance: ±5%; Supplier 1: Digi-Key; RoHS: RoHS Compliant; Category: Discrete Semiconductor Products; Stock 1: 6148; Pricing 1: 1=0.16, 10=0.145, 100=0.0789, 500=0.04856, 1000=0.03311 (USD); Packaging: Cut Tape (CT); Part Status: Active; Operating Temperature: -65°C ~ 150°C; Mounting Type: Surface Mount; Package / Case: TO-236-3, SC-59, SOT-23-3; Supplier Device Package: SOT-23-3 (TO-236); Base Part Number: MMBZ5222B; ComponentLink1URL: http://www.onsemi.com/pub/Collateral/MMBZ5221BLT1-D.PDF; ComponentLink1Description: http://www.onsemi.com/pub/Collateral/MMBZ5221BLT1-D.PDF; Supplier Part Number 1: MMBZ5222BLT1GOSCT-ND
footprint SOT23_L (SOT23, 3-Leads, Body 2.9x1.3mm, Pitch 0.95mm, Lead Span 2.3mm, IPC High Density)
footprint SOT23_M (SOT23, 3-Leads, Body 2.9x1.3mm, Pitch 0.95mm, Lead Span 2.3mm, IPC Low Density)
footprint SOT23_N (SOT23, 3-Leads, Body 2.9x1.3mm, Pitch 0.95mm, Lead Span 2.3mm, IPC Medium Density)
pins: 1 A, 3 K

## MMSZ5231BT1G
designator D?, comment 5.1V
DIODE ZENER 5.1V 500MW SOD123; Manufacturer: ON Semiconductor; Manufacturer Part Number: MMSZ5231BT1G; Tolerance: ±5%; Impedance (Max) (Zzt): 17 Ohm; Current - Reverse Leakage @ Vr: 5µA @ 2V; Voltage - Forward (Vf) (Max) @ If: 900mV @ 10mA; Supplier 1: Digi-Key; RoHS: RoHS Compliant; Category: Discrete Semiconductor Products; Stock 1: 52721; Pricing 1: 1=0.23, 10=0.192, 100=0.1016, 500=0.06678, 1000=0.0455 (USD); Packaging: Cut Tape (CT); Voltage - Zener (Nom) (Vz): 5.1V; Power - Max: 500mW; Operating Temperature: -55°C ~ 150°C; Mounting Type: Surface Mount; Package / Case: SOD-123; Supplier Device Package: SOD-123; ComponentLink1URL: http://www.onsemi.com/pub_link/Collateral/MMSZ5221BT1-D.PDF; ComponentLink1Description: http://www.onsemi.com/pub_link/Collateral/MMSZ5221BT1-D.PDF; Supplier Part Number 1: MMSZ5231BT1GOSCT-ND
footprint SOD123_N (SODFL, 2-Leads, Body 1.60x3.71mm, IPC Medium Density)
pins: 1 K, 2 A

## motor_vibrator
designator M?
footprint motor_vibrator
pins: 1 M1, 2 M2

## MountingHole-1/8in
designator M?  Supplier Part Number 1: BK-877-ND  (hidden comment: *)
Manufacturer: MPD (Memory Protection Devices); Manufacturer Part Number: BK-877; Battery Type, Function: Coin Cell, Retainer; Style: Retainer; Battery Cell Size: Coin, 24.5mm; Number of Cells: 1; Battery Series: 2450; Supplier 1: Digi-Key; RoHS: RoHS Compliant; Category: Battery Products; Stock 1: 908; Pricing 1: 1=0.4, 10=0.367, 100=0.3333, 500=0.303, 1000=0.2828 (USD); Part Status: Active; Mounting Type: PCB, Surface Mount; Termination Style: SMD (SMT) Tab; Height Above Board: 0.230" (5.85mm); Operating Temperature: -; ComponentLink1URL: http://www.memoryprotectiondevices.com/datasheets/BK-877-datasheet.pdf; ComponentLink1Description: http://www.memoryprotectiondevices.com/datasheets/BK-877-datasheet.pdf
footprint MoutingHole-1/8in

## MUN5213DW1T1G
designator U?
TRANS PREBIAS DUAL NPN SOT363; Manufacturer: ON Semiconductor; Manufacturer Part Number: MUN5213DW1T1G; Transistor Type: 2 NPN - Pre-Biased (Dual); Current - Collector (Ic) (Max): 100mA; Voltage - Collector Emitter Breakdown (Max): 50V; Resistor - Base (R1) (Ohms): 47k; DC Current Gain (hFE) (Min) @ Ic, Vce: 80 @ 5mA, 10V; Vce Saturation (Max) @ Ib, Ic: 250mV @ 300µA, 10mA; Current - Collector Cutoff (Max): 500nA; Power - Max: 250mW; Supplier 1: Digi-Key; RoHS: RoHS Compliant; Category: Discrete Semiconductor Products; Stock 1: 9487; Pricing 1: 1=0.29, 10=0.265, 25=0.1908, 100=0.1485, 250=0.09332, 500=0.07952, 1000=0.05418 (USD); Packaging: Cut Tape (CT); Resistor - Emitter Base (R2) (Ohms): 47k; Frequency - Transition: -; Mounting Type: Surface Mount; Package / Case: 6-TSSOP, SC-88, SOT-363; Supplier Device Package: SC-88/SC70-6/SOT-363; ComponentLink1URL: http://www.onsemi.com/pub_link/Collateral/DTC144ED-D.PDF; ComponentLink1Description: http://www.onsemi.com/pub_link/Collateral/DTC144ED-D.PDF; Supplier Part Number 1: MUN5213DW1T1GOSCT-ND
footprint SOT363_L (SOT363, 6-Leads, Body 2x1.3mm, Pitch 0.65mm, Lead Span 2.1mm, IPC High Density)
footprint SOT363_M (SOT363, 6-Leads, Body 2x1.3mm, Pitch 0.65mm, Lead Span 2.1mm, IPC Low Density)
footprint SOT363_N (SOT363, 6-Leads, Body 2x1.3mm, Pitch 0.65mm, Lead Span 2.1mm, IPC Medium Density)
pins: 1 *, 2 *, 3 *, 4 *, 5 *, 6 b

## nanoPi_NEO
designator U?
NanoPi Neo
footprint NanoPI_NEO
pins: 0 5V, 1 USB1_D+, 2 USB1_D-, 3 USB2_D+, 4 USB2_D-, 5 PL11/IR_RX, 6 PA17/SPDIF_OUT, 7 I2S0_LRCK, 8 I2S0_BCK, 9 I2S0_DOUT, 10 I2S0_DIN, 11 GND, 12 RX, 13 TX, 14 5V, 15 GND, 16 3.3V, 17 12C_SDA, 18 12C_SCL, 19 PG11, 20 GND, 21 PA0/UART2_TX, 22 PA2/UART2_RTS, 23 PA3/UART2_CTS, 24 3.3V, 25 PC0/SPI0_MOSI, 26 PC0/SPI0_MISO, 27 PC0/SPI0_CLK, 28 5V-IN/OUT, 29 5V-IN/OUT, 30 GND, 31 PG6/UART1_TX, 32 PG7/UART1_RX, 33 PA6/PWM1, 34 GND, 35 PG8/UART1_RTS, 36 PG9/UART1_CTS, 37 GND, 38 PA1/UART2_RX, 39 PC3/SPI0_CS

## NCP1117ST33T3G
designator U?
IC REG LINEAR 3.3V 1A SOT223; Manufacturer: ON Semiconductor; Manufacturer Part Number: NCP1117ST33T3G; Output Configuration: Positive; Output Type: Fixed; Voltage - Input (Max): 20V; Voltage Dropout (Max): 1.2V @ 800mA; PSRR: 64dB (120Hz); Protection Features: Over Current, Over Temperature; Supplier 1: Digi-Key; RoHS: RoHS Compliant; Category: Integrated Circuits (ICs); Stock 1: 49501; Pricing 1: 1=0.52, 10=0.444, 100=0.3315, 500=0.26048, 1000=0.20129 (USD); Packaging: Cut Tape (CT); Part Status: Active; Voltage - Output (Min/Fixed): 3.3V; Voltage - Output (Max): -; Current - Output: 1A; Control Features: -; Operating Temperature: 0°C ~ 125°C; Mounting Type: Surface Mount; Package / Case: TO-261-4, TO-261AA; Supplier Device Package: SOT-223; Base Part Number: NCP1117ST33; ComponentLink1URL: http://www.onsemi.com/pub/Collateral/NCP1117-D.PDF; ComponentLink1Description: http://www.onsemi.com/pub/Collateral/NCP1117-D.PDF; Supplier Part Number 1: NCP1117ST33T3GOSCT-ND
footprint SOT-223_L (SOT223, 4-Leads, Body 6.50x7.00mm (avg), Pitch 2.30mm, IPC High Density)
footprint SOT-223_M (SOT223, 4-Leads, Body 6.50x7.00mm (avg), Pitch 2.30mm, IPC Low Density)
footprint SOT-223_N (SOT223, 4-Leads, Body 6.50x7.00mm (avg), Pitch 2.30mm, IPC Medium Density)
pins: 1 GND (power), 2 VOUT (out), 3 VIN (in), 4 VOUT (out)

## NOT-Gate-NC7WZ14P6X
designator U?
IC INVERTER DUAL SCHMITT SC70-6; Manufacturer: Fairchild Semiconductor; Manufacturer Part Number: NC7WZ14P6X; Number of Circuits: 2; Voltage - Supply: 1.65 V ~ 5.5 V; Current - Quiescent (Max): 1µA; Current - Output High, Low: 32mA, 32mA; Logic Level - Low: 0.2 V ~ 1.2 V; Logic Level - High: 1.4 V ~ 3.6 V; Max Propagation Delay @ V, Max CL: 4.9ns @ 5V, 50pF; Supplier 1: Digi-Key; RoHS: RoHS Compliant; Category: Integrated Circuits (ICs); Stock 1: 64384; Pricing 1: 1=0.41, 10=0.298, 25=0.232, 100=0.1758, 250=0.12428, 500=0.0995, 1000=0.07631 (USD); Packaging: Cut Tape (CT); Logic Type: Inverter; Number of Inputs: 2; Features: Schmitt Trigger; Operating Temperature: -40°C ~ 85°C; Mounting Type: Surface Mount; Supplier Device Package: SC-70-6; Package / Case: 6-TSSOP, SC-88, SOT-363; ComponentLink1URL: http://www.fairchildsemi.com/datasheets/NC/NC7WZ14.pdf; ComponentLink1Description: http://www.fairchildsemi.com/datasheets/NC/NC7WZ14.pdf; Supplier Part Number 1: NC7WZ14P6XCT-ND
footprint SC70_L (SOT23, 6-Leads, Body 2.00x2.10mm, Pitch 0.65mm, IPC High Density)
footprint SC70_M (SOT23, 6-Leads, Body 2.00x2.10mm, Pitch 0.65mm, IPC Low Density)
footprint SC70_N (SOT23, 6-Leads, Body 2.00x2.10mm, Pitch 0.65mm, IPC Medium Density)
pins: 1 A1, 2 GND, 3 A2, 4 Y2, 5 VCC, 6 Y1

## NTGS3446T1G
designator Q?
MOSFET N-CH 20V 2.5A 6TSOP; Manufacturer: ON Semiconductor; FET Type: MOSFET N-Channel, Metal Oxide; FET Feature: Logic Level Gate; Current - Continuous Drain (Id) @ 25°C: 2.5A (Ta); Rds On (Max) @ Id, Vgs: 45 mOhm @ 5.1A, 4.5V; Vgs(th) (Max) @ Id: 1.2V @ 250µA; Gate Charge (Qg) @ Vgs: 15nC @ 4.5V; Input Capacitance (Ciss) @ Vds: 750pF @ 10V; Power - Max: 500mW; Supplier 1: Digi-Key; Manufacturer Part Number: NTGS3446T1G; RoHS: RoHS Compliant; Category: Discrete Semiconductor Products; Stock 1: 27021; Pricing 1: 1=0.52, 10=0.41, 25=0.3456, 100=0.2816, 250=0.23324, 500=0.19266, 1000=0.1443 (USD); Packaging: Cut Tape (CT); Drain to Source Voltage (Vdss): 20V; Mounting Type: Surface Mount; Package / Case: SC-74, SOT-457; Supplier Device Package: 6-TSOP; ComponentLink1URL: http://www.onsemi.com/pub_link/Collateral/NTGS3446-D.PDF; ComponentLink1Description: http://www.onsemi.com/pub_link/Collateral/NTGS3446-D.PDF; Supplier Part Number 1: NTGS3446T1GOSCT-ND
footprint TSOP6_N (TSOP, 6-Leads, Body 3,00x1,50mm, Pitch 0,95mm, IPC Medium Density)
footprint TSOP6_M (TSOP, 6-Leads, Body 3,00x1,50mm, Pitch 0,95mm, IPC Low Density)
footprint TSOP6_L (TSOP, 6-Leads, Body 3,00x1,50mm, Pitch 0,95mm, IPC High Density)
pins: 1 D, 2 D, 3 G, 4 S, 5 D, 6 D

## Oled 0.91inch 128x32
designator U?
pins: 1 SDA, 2 SCL, 3 VCC, 4 GND

## OP27
designator U?
footprint DIP8
pins: 1 Vos TRIM, 2 IN-, 3 IN+, 4 V-, 5 N/C, 6 OUT, 7 V+, 8 Vos TRIM

## OR-GATE-SN74LVC1G32DCKR
designator U?
IC GATE OR 1CH 2-INP SC-70-5; Manufacturer: Texas Instruments; Manufacturer Part Number: SN74LVC1G32DCKR; Logic Type: OR Gate; Number of Circuits: 1; Number of Inputs: 2; Voltage - Supply: 1.65 V ~ 5.5 V; Current - Quiescent (Max): 10µA; Current - Output High, Low: 32mA, 32mA; Logic Level - Low: 0.7 V ~ 0.8 V; Logic Level - High: 1.7 V ~ 2 V; Max Propagation Delay @ V, Max CL: 4ns @ 5V, 50pF; Supplier 1: Digi-Key; RoHS: RoHS Compliant; Category: Integrated Circuits (ICs); Stock 1: 31884; Pricing 1: 1=0.39, 10=0.265, 100=0.124, 1000=0.108 (USD); Packaging: Cut Tape (CT); Features: -; Operating Temperature: -40°C ~ 125°C; Mounting Type: Surface Mount; Supplier Device Package: SC-70-5; Package / Case: 5-TSSOP, SC-70-5, SOT-353; ComponentLink1URL: http://www.ti.com/lit/ds/symlink/sn74lvc1g32.pdf; ComponentLink1Description: http://www.ti.com/lit/ds/symlink/sn74lvc1g32.pdf; Supplier Part Number 1: 296-9848-1-ND
footprint SC70-5_L (SOT23, 5-Leads, Body 2.00x2.10mm, Pitch 0.65mm, IPC High Density)
footprint SC70-5_M (SOT23, 5-Leads, Body 2.00x2.10mm, Pitch 0.65mm, IPC Low Density)
footprint SC70-5_N (SOT23, 5-Leads, Body 2.00x2.10mm, Pitch 0.65mm, IPC Medium Density)
pins: 1 A, 2 B, 3 GND, 4 Y, 5 VCC

## P2N2222AG
designator *  Supplier Part Number 1: P2N2222AGOS-ND
TRANS GP SS NPN LP 40V TO92; Manufacturer: ON Semiconductor; Manufacturer Part Number: P2N2222AG; Current - Collector (Ic) (Max): 600mA; Vce Saturation (Max) @ Ib, Ic: 1V @ 50mA, 500mA; Current - Collector Cutoff (Max): 10nA; DC Current Gain (hFE) (Min) @ Ic, Vce: 100 @ 150mA, 10V; Power - Max: 625mW; Frequency - Transition: 300MHz; Supplier 1: Digi-Key; RoHS: RoHS Compliant; Category: Discrete Semiconductor Products; Stock 1: 22724; Pricing 1: 1=0.42, 10=0.304, 25=0.2368, 100=0.1791, 250=0.12676, 500=0.1014, 1000=0.07774, 2500=0.0676, 5000=0.06084 (USD); Packaging: Bulk; Transistor Type: NPN; Voltage - Collector Emitter Breakdown (Max): 40V; Mounting Type: Through Hole; Package / Case: TO-226-3, TO-92-3 (TO-226AA); Supplier Device Package: TO-92-3; ComponentLink1URL: http://www.onsemi.com/pub_link/Collateral/P2N2222A-D.PDF; ComponentLink1Description: http://www.onsemi.com/pub_link/Collateral/P2N2222A-D.PDF
pins: 6 OUT, 7 OUT

## PCA9533D/01,112
designator U?
IC LED DRIVER LIN DIM 25MA 8SO; Manufacturer: NXP USA Inc.; Manufacturer Part Number: PCA9533D/01,112; Internal Switch(s): Yes; Number of Outputs: 4; Voltage - Supply (Min): 2.3V; Voltage - Supply (Max): 5.5V; Frequency: 400kHz; Dimming: I²C, SMBus; Supplier 1: Digi-Key; RoHS: RoHS Compliant; Category: Integrated Circuits (ICs); Stock 1: 1486; Pricing 1: 1=1.66, 10=1.489, 100=1.1964, 500=0.98298, 1000=0.81447 (USD); Packaging: Tube; Part Status: Active; Type: Linear; Topology: -; Voltage - Output: -; Current - Output / Channel: 25mA; Applications: Backlight; Operating Temperature: -40°C ~ 85°C (TA); Mounting Type: Surface Mount; Package / Case: 8-SOIC (0.154", 3.90mm Width); Supplier Device Package: 8-SO; ComponentLink1URL: http://www.nxp.com/documents/data_sheet/PCA9533.pdf; ComponentLink1Description: http://www.nxp.com/documents/data_sheet/PCA9533.pdf; Supplier Part Number 1: 568-3372-5-ND
footprint SOIC8_L (SOIC, 8-Leads, Body 4.90x3.90mm, Pitch 1.27mm, IPC High Density)
footprint SOIC8_M (SOIC, 8-Leads, Body 4.90x3.90mm, Pitch 1.27mm, IPC Low Density)
footprint SOIC8_N (SOIC, 8-Leads, Body 4.90x3.90mm, Pitch 1.27mm, IPC Medium Density)
pins: 1 LED0, 2 LED1, 3 LED2, 4 GND, 5 LED3, 6 SCL, 7 SDA, 8 VDD

## POWER_PAD_AWG18
designator J?
footprint POWER_PAD_AWG 18
pins: 1

## R-78B5.0-1.0
designator U?
CONV DC/DC 1A 5V OUT SIP VERT; Manufacturer: Recom Power; Manufacturer Part Number: R-78B5.0-1.0; Power (Watts) - Manufacture Series: 5W; Number of Outputs: 1; Voltage - Input (Min): 6.5V; Voltage - Input (Max): 32V; Efficiency: 93%; Supplier 1: Digi-Key; RoHS: RoHS Compliant; Category: Power Supplies - Board Mount; Stock 1: 2864; Pricing 1: 1=8.45, 5=8.384, 10=8.32, 42=8.1919, 84=7.93595, 126=7.16802, 250=7.04 (USD); Packaging: Tube; Type: Linear Regulator Replacement; Voltage - Output 1: 5V; Voltage - Output 2: -; Voltage - Output 3: -; Current - Output (Max): 1A; Voltage - Isolation: -; Features: OTP, SCP; Mounting Type: Through Hole; Package / Case: 3-SIP Module; Size / Dimension: 0.45" L x 0.33" W x 0.69" H (11.5mm x 8.5mm x 17.5mm); Operating Temperature: -40°C ~ 85°C; Power (Watts) - Max: 5W; ComponentLink1URL: http://www.recom-power.com/pdf/Innoline/R-78Bxx-1.0_L.pdf; ComponentLink1Description: http://www.recom-power.com/pdf/Innoline/R-78Bxx-1.0_L.pdf; Supplier Part Number 1: 945-1052-ND
footprint SIP3_RECOM
pins: 1 Vin, 2 GND, 3 Vout

## R_SMD
designator R?, comment 1K
Value: 1K
footprint R0603_L (Chip Resistor, 2-Leads, Body 1,60x0,85mm, IPC High Density)
footprint R0603_M (Chip Resistor, 2-Leads, Body 1,60x0,85mm, IPC Low Density)
footprint R0603_N (Chip Resistor, 2-Leads, Body 1,60x0,85mm, IPC Medium Density)
footprint R0805_L (Chip Resistor, 2-Leads, Body 2,00x1,25mm, IPC High Density)
footprint R0805_M (Chip Resistor, 2-Leads, Body 2,00x1,25mm, IPC Low Density)
footprint R0805_N (Chip Resistor, 2-Leads, Body 2,00x1,25mm, IPC Medium Density)
footprint R1206_L (Chip Resistor, 2-Leads, Body 3,13x1,55mm, IPC High Density)
footprint R1206_M (Chip Resistor, 2-Leads, Body 3,13x1,60mm, IPC Low Density)
footprint R1206_N (Chip Resistor, 2-Leads, Body 3,13x1,55mm, IPC Medium Density)
footprint R0402_L (Chip Resistor, 2-Leads, Body 1.00x0.50mm, IPC High Density)
footprint R0402_M (Chip Resistor, 2-Leads, Body 1.00x0.50mm, IPC Low Density)
footprint R0402_N (Chip Resistor, 2-Leads, Body 1.00x0.50mm, IPC Medium Density)
pins: 1, 2

## RAC03-05SGB AC/DC
designator U?
CONV AC/DC 3W 85-305VIN 05VOUT T; Manufacturer: Recom Power; Manufacturer Part Number: RAC03-05SGB; Voltage - Input: 85 ~ 305 VAC; Voltage - Output 1: 5V; Current - Output (Max): 600mA; Efficiency: 72%; Line Regulation: ±0.5%; Approvals: CE, cURus; Supplier 1: Digi-Key; RoHS: RoHS Compliant; Category: Power Supplies - Board Mount; Stock 1: 107; Pricing 1: 1=9.16, 5=9.034, 20=8.91, 40=8.6625, 60=8.415, 100=8.1675, 260=7.92, 500=7.425 (USD); Part Status: Active; Type: Enclosed; Voltage - Output 2: -; Voltage - Output 3: -; Voltage - Output 4: -; Applications: ITE (Commercial); Operating Temperature: -40°C ~ 85°C (With Derating); Mounting Type: Through Hole; Size / Dimension: 1.46" L x 0.94" W x 0.59" H (37.0mm x 24.0mm x 15.0mm); Load Regulation: ±0.5%; Weight: 0.044 lb (19.96g); ComponentLink1URL: https://www.recom-power.com/pdf/Powerline-AC-DC/RAC03-GB.pdf; ComponentLink1Description: https://www.recom-power.com/pdf/Powerline-AC-DC/RAC03-GB.pdf; Supplier Part Number 1: 945-3088-5-ND
footprint RECOM AC/DC 5V
footprint RECOM AC/DC 5V TRIMMED UNUSED PIN
pins: 1 LINE, 2 NEUTRAL, 4 GND, 5 5V

## RELAY GEN PURPOSE SPDT 10A 5V
designator K?
RELAY GEN PURPOSE SPDT 10A 5V; Manufacturer: TE Connectivity Potter & Brumfield Relays; Manufacturer Part Number: ORWH-SH-105D1F,000; Coil Voltage: 5VDC; Contact Form: SPDT (1 Form C); Switching Voltage: 277VAC, 28VDC - Max; Coil Type: Non Latching; Turn On Voltage (Max): 3.5 VDC; Turn Off Voltage (Min): 0.5 VDC; Relay Type: General Purpose; Coil Power: 360 mW; Supplier 1: Digi-Key; RoHS: RoHS Compliant; Category: Relays; Stock 1: 4423; Pricing 1: 1=1.35, 10=1.274, 25=1.144, 50=1.092, 100=1.04, 250=0.936, 500=0.884, 1000=0.832, 5000=0.806 (USD); Packaging: Tube; Part Status: Active; Mounting Type: Through Hole; Features: Insulation - Class F, Sealed - Fully; Termination Style: PC Pin; Operating Temperature: -30°C ~ 70°C; Contact Material: Silver Zinc Oxide (AgZnO); ComponentLink1URL: https://www.te.com/commerce/DocumentDelivery/DDEController?Action=srchrtrv&DocNm=1721153&DocType=Customer+Drawing&DocLang=English; ComponentLink1Description: https://www.te.com/commerce/DocumentDelivery/DDEController?Action=srchrtrv&DocNm=1721153&DocType=Customer+Drawing&DocLang=English; Supplier Part Number 1: PB2032-ND
footprint RELAY 10A 5V small
pins: 1 C1, 2 C2, 3 C, 4 NC, 5 NO

## RELAY SPDT 5A 5V
designator U?
RELAY GENERAL PURPOSE SPDT 5A 5V; Manufacturer: Omron Electronics Inc-EMC Div; Manufacturer Part Number: G5LA-14 DC5; Coil Type: Non Latching; Coil Current: 72mA; Coil Voltage: 5VDC; Contact Form: SPDT (1 Form C); Switching Voltage: 250VAC, 24VDC - Max; Turn On Voltage (Max): 3.75 VDC; Turn Off Voltage (Min): 0.5 VDC; Operate Time: 10ms; Release Time: 5ms; Coil Power: 360 mW; Coil Resistance: 69 Ohms; Supplier 1: Digi-Key; RoHS: RoHS Compliant; Category: Relays; Stock 1: 2963; Pricing 1: 1=1.39, 10=1.302, 25=1.1576, 50=1.0998, 100=1.0419, 250=0.92616, 500=0.8683, 1000=0.8104, 2500=0.79593 (USD); Packaging: Bulk; Relay Type: General Purpose; Contact Rating (Current): 5A; Features: Insulation - Class A, Sealed - Fully; Mounting Type: Through Hole; Termination Style: PC Pin; Contact Material: Silver Tin Oxide (AgSnO); Operating Temperature: -40°C ~ 85°C; ComponentLink1URL: http://components.omron.com/components/web/PDFLIB.nsf/0/4F7D9D9CA026C97E862573930070AC4F/$file/G5LA_E_0911.pdf; ComponentLink1Description: http://components.omron.com/components/web/PDFLIB.nsf/0/4F7D9D9CA026C97E862573930070AC4F/$file/G5LA_E_0911.pdf; Supplier Part Number 1: Z2560-ND
footprint RELAY
pins: 1 COM, 2 VDC+, 3 NO, 4 NC, 5 VDC-
text: RELAY